# Altium footprint library Mechanical.PcbLib: 2 footprints
Each footprint in its own frame and in the unit in brackets; x right, y up, seen from the top. Pads: shape width x height; smd on the part's side, far side on the other; paste and mask are expansions set on the pad; w line width, h text height; cw(c..) or ccw(c..) is an arc to the next point about the centre after c.
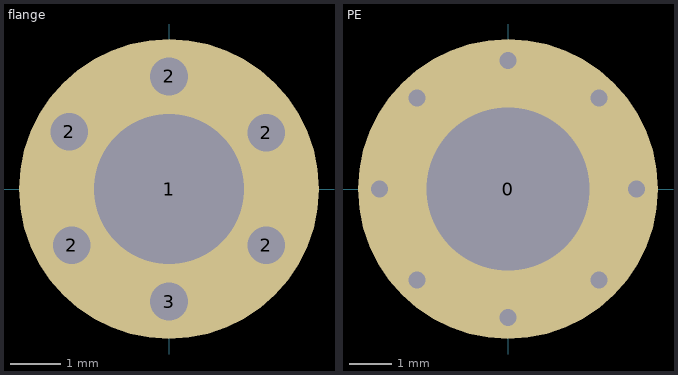
[diagram p0: the footprints below, top view; thin cyan lines are the x and y axes]

## flange [mm]
pads (7):
  round 6 hole 3: 1(0,0)
  round 1.2 hole 0.75: 2(-1.992,1.143) 2(-1.949,-1.125) 2(0,2.25) 2(1.949,-1.125) 2(1.949,1.125)
  round 1.4 hole 0.75: 3(0,-2.25)

## PE [mm]
height 6.2
pads (9):
  round 0 hole 0.4: 0(-3,0) 0(-2.121,-2.121) 0(-2.121,2.121) 0(0,-3) 0(0,3) 0(2.121,-2.121) 0(2.121,2.121) 0(3,0)
  round 7 hole 3.8: 0(0,0)